# EAGLE library part JUMP_3 (library Misaka-Connector)
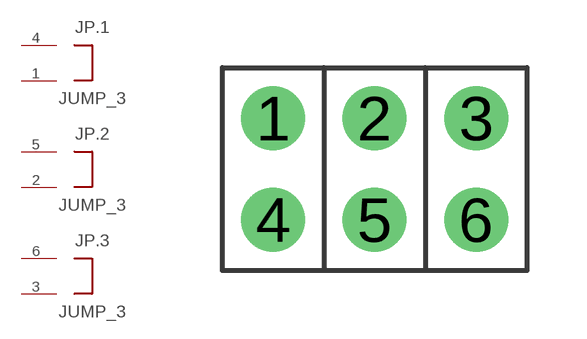
[diagram p10: symbol with the pads of PH3X02; footprint PH3X02]

Designator prefix JP; gates .2=JUMPER .1=JUMPER .3=JUMPER

## JUMP_3  [PH3X02]
1  .1:2  pas
2  .2:2  pas
3  .3:2  pas
4  .1:1  pas
5  .2:1  pas
6  .3:1  pas

## Footprint PH3X02 (pad centres in mm)
drill 1 pad 1.6: 1 -2.54,1.27; 2 0,1.27; 3 2.54,1.27; 4 -2.54,-1.27; 5 0,-1.27; 6 2.54,-1.27